# EAGLE library part C62167DV30LL-55 (library Zoli2_2015-01-28)
2Mx8/1Mx16 SRAM
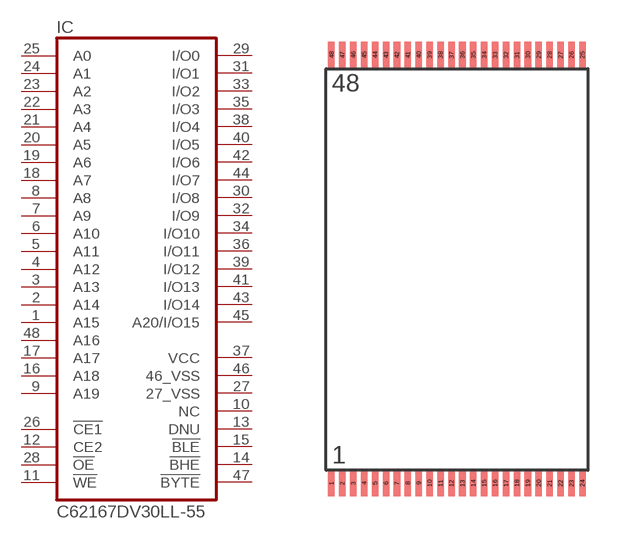
[diagram p1: symbol with the pads of TSOPI-48; footprint TSOPI-48]

Designator prefix IC

## C62167DV30LL-55  [TSOPI-48]
1  A15  in
2  A14  in
3  A13  in
4  A12  in
5  A11  in
6  A10  in
7  A9  in
8  A8  in
9  A19  in
10  NC  hiz
11  !WE  in
12  CE2  in
13  DNU  in
14  !BHE  in
15  !BLE  in
16  A18  in
17  A17  in
18  A7  in
19  A6  in
20  A5  in
21  A4  in
22  A3  in
23  A2  in
24  A1  in
25  A0  in
26  !CE1  in
27  27_VSS  pwr
28  !OE  in
29  I/O0
30  I/O8
31  I/O1
32  I/O9
33  I/O2
34  I/O10
35  I/O3
36  I/O11
37  VCC  pwr
38  I/O4
39  I/O12
40  I/O5
41  I/O13
42  I/O6
43  I/O14
44  I/O7
45  A20/I/O15
46  46_VSS  pwr
47  !BYTE  in
48  A16  in

## Footprint TSOPI-48 (pad centres in mm)
smd 0.3 x 1.2: 1 -5.75,-9.782; 2 -5.25,-9.782; 3 -4.75,-9.782; 4 -4.25,-9.782; 5 -3.75,-9.782; 6 -3.25,-9.782; 7 -2.75,-9.782; 8 -2.25,-9.782; 9 -1.75,-9.782; 10 -1.25,-9.782; 11 -0.75,-9.782; 12 -0.25,-9.782; 13 0.25,-9.782; 14 0.75,-9.782; 15 1.25,-9.782; 16 1.75,-9.782; 17 2.25,-9.782; 18 2.75,-9.782; 19 3.25,-9.782; 20 3.75,-9.782; 21 4.25,-9.782; 22 4.75,-9.782; 23 5.25,-9.782; 24 5.75,-9.782; 25 5.75,9.828; 26 5.25,9.828; 27 4.75,9.828; 28 4.25,9.828; 29 3.75,9.828; 30 3.25,9.828; 31 2.75,9.828; 32 2.25,9.828; 33 1.75,9.828; 34 1.25,9.828; 35 0.75,9.828; 36 0.25,9.828; 37 -0.25,9.828; 38 -0.75,9.828; 39 -1.25,9.828; 40 -1.75,9.828; 41 -2.25,9.828; 42 -2.75,9.828; 43 -3.25,9.828; 44 -3.75,9.828; 45 -4.25,9.828; 46 -4.75,9.828; 47 -5.25,9.828; 48 -5.75,9.828